# Altium footprint library Ti.PcbLib: 4 footprints
Each footprint in its own frame and in the unit in brackets; x right, y up, seen from the top. Pads: shape width x height; smd on the part's side, far side on the other; paste and mask are expansions set on the pad; w line width, h text height; cw(c..) or ccw(c..) is an arc to the next point about the centre after c.
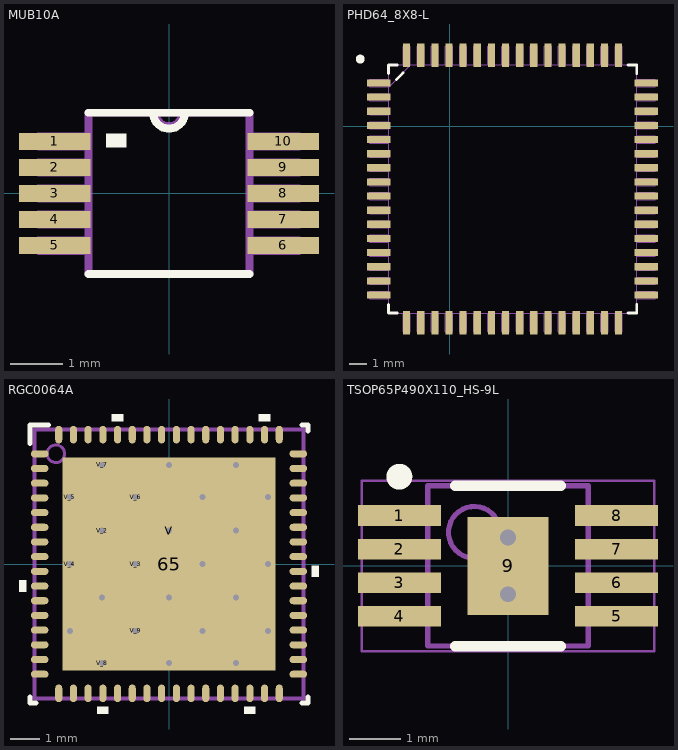
[diagram p0: the footprints below, top view; thin cyan lines are the x and y axes]

## MUB10A [mil]
height 43
pads (10):
  rect 54x13 smd: 1(-86.5,39.37) 2(-86.5,19.68) 3(-86.5,0) 4(-86.5,-19.68) 5(-86.5,-39.37) 6(86.5,-39.37) 7(86.5,-19.68) 8(86.5,0) 9(86.5,19.68) 10(86.5,39.37)
Top Overlay:
  region: -47.5,35 -47.5,45 -32.5,45 -32.5,35
  lines w6: -61,-61 61,-61 ; -61,61 61,61 ; -12,61 ccw(c0,61) 12,61
Mechanical 1:
  lines w6: -10.17,61 ccw(c0,61) 10.17,61 ; -61,-61 -61,61 61,61 61,-61 -61,-61
Mechanical 13:
  lines w0: -12,61 ccw(c0,61) 12,61 ; 61,13.19 99.5,13.19 99.5,26.18 61,26.18 ; 61,32.87 99.5,32.87 99.5,45.87 61,45.87 ; -99.5,-45.87 -99.5,-32.87 -61,-32.87 -61,-45.87 -99.5,-45.87 ; -99.5,-26.18 -99.5,-13.19 -61,-13.19 -61,-26.18 -99.5,-26.18 ; -99.5,-6.5 -99.5,6.5 -61,6.5 -61,-6.5 -99.5,-6.5 ; -99.5,13.19 -99.5,26.18 -61,26.18 -61,13.19 -99.5,13.19 ; -99.5,32.87 -99.5,45.87 -61,45.87 -61,32.87 -99.5,32.87 ; -61,-61 61,-61 61,61 -61,61 -61,-61 ; 61,-45.87 61,-32.87 99.5,-32.87 99.5,-45.87 61,-45.87 ; 61,-26.18 61,-13.19 99.5,-13.19 99.5,-26.18 61,-26.18 ; 61,-6.5 61,6.5 99.5,6.5 99.5,-6.5 61,-6.5

## PHD64_8X8-L [mil]
pads (64):
  rect 52x16 smd: 1(-158.5,96.72) 2(-158.5,65.22) 3(-158.5,33.73) 4(-158.5,2.23) 5(-158.5,-29.26) 6(-158.5,-60.76) 7(-158.5,-92.26) 8(-158.5,-123.75) 9(-158.5,-155.25) 10(-158.5,-186.74) 11(-158.5,-218.24) 12(-158.5,-249.74) 13(-158.5,-281.23) 14(-158.5,-312.73) 15(-158.5,-344.22) 16(-158.5,-375.72) 33(437.5,-375.72) 34(437.5,-344.22) 35(437.5,-312.73) 36(437.5,-281.23) 37(437.5,-249.74) 38(437.5,-218.24) 39(437.5,-186.74) 40(437.5,-155.25) 41(437.5,-123.75) 42(437.5,-92.26) 43(437.5,-60.76) 44(437.5,-29.26) 45(437.5,2.23) 46(437.5,33.73) 47(437.5,65.22) 48(437.5,96.72)
  rect 16x52 smd: 17(-96.72,-437.5) 18(-65.22,-437.5) 19(-33.73,-437.5) 20(-2.23,-437.5) 21(29.26,-437.5) 22(60.76,-437.5) 23(92.26,-437.5) 24(123.75,-437.5) 25(155.25,-437.5) 26(186.74,-437.5) 27(218.24,-437.5) 28(249.74,-437.5) 29(281.23,-437.5) 30(312.73,-437.5) 31(344.22,-437.5) 32(375.72,-437.5) 49(375.72,158.5) 50(344.22,158.5) 51(312.73,158.5) 52(281.23,158.5) 53(249.74,158.5) 54(218.24,158.5) 55(186.74,158.5) 56(155.25,158.5) 57(123.75,158.5) 58(92.26,158.5) 59(60.76,158.5) 60(29.26,158.5) 61(-2.23,158.5) 62(-33.73,158.5) 63(-65.22,158.5) 64(-96.72,158.5)
Top Overlay:
  circle w10: c-200,150 r5
  lines w6: -137,-396.82 -137,-416 -117.82,-416 ; -137,117.82 -137,137 -117.82,137 ; -119.4,104.6 -104.6,119.4 ; 396.82,-416 416,-416 416,-396.82 ; 396.82,137 416,137 416,117.82
Mechanical 1:
  drawing of 261 lines, arcs and shapes, not listed
3D body: height 47.24, standoff 5.91, extent -137,-416 416,137

## RGC0064A [mm]
pads (89):
  oval 0.6x0.24 smd paste-0.102 mask+0.051: 1(-4.4,3.75) 2(-4.4,3.25) 3(-4.4,2.75) 4(-4.4,2.25) 5(-4.4,1.75) 6(-4.4,1.25) 7(-4.4,0.75) 8(-4.4,0.25) 9(-4.4,-0.25) 10(-4.4,-0.75) 11(-4.4,-1.25) 12(-4.4,-1.75) 13(-4.4,-2.25) 14(-4.4,-2.75) 15(-4.4,-3.25) 16(-4.4,-3.75) 33(4.4,-3.75) 34(4.4,-3.25) 35(4.4,-2.75) 36(4.4,-2.25) 37(4.4,-1.75) 38(4.4,-1.25) 39(4.4,-0.75) 40(4.4,-0.25) 41(4.4,0.25) 42(4.4,0.75) 43(4.4,1.25) 44(4.4,1.75) 45(4.4,2.25) 46(4.4,2.75) 47(4.4,3.25) 48(4.4,3.75)
  oval 0.24x0.6 smd paste-0.102 mask+0.051: 17(-3.751,-4.4) 18(-3.251,-4.4) 19(-2.751,-4.4) 20(-2.251,-4.4) 21(-1.75,-4.4) 22(-1.25,-4.4) 23(-0.75,-4.4) 24(-0.25,-4.4) 25(0.25,-4.4) 26(0.75,-4.4) 27(1.25,-4.4) 28(1.75,-4.4) 29(2.251,-4.4) 30(2.751,-4.4) 31(3.251,-4.4) 32(3.751,-4.4) 49(3.751,4.4) 50(3.251,4.4) 51(2.751,4.4) 52(2.251,4.4) 53(1.75,4.4) 54(1.25,4.4) 55(0.75,4.4) 56(0.25,4.4) 57(-0.25,4.4) 58(-0.75,4.4) 59(-1.25,4.4) 60(-1.75,4.4) 61(-2.251,4.4) 62(-2.751,4.4) 63(-3.251,4.4) 64(-3.751,4.4)
  rect 7.25x7.25 smd paste-3.612 mask+0.051: 65(0,0)
  round 0.5 / inner round 1.524 / far side round 0.5 hole 0.203 mask+0.051: V(0,1.136) V_2(-2.272,1.136) V_3(-1.136,0) V_4(-3.375,0) V_5(-3.375,2.272) V_6(-1.136,2.272) V_7(-2.272,3.375) V_8(-2.272,-3.375) V_9(-1.136,-2.272) V_10(-3.375,-2.272) V_11(-2.272,-1.136) V_12(0,-1.136) V_13(2.272,-1.136) V_14(3.375,-2.272) V_15(1.136,-2.272) V_16(0,-3.375) V_17(2.272,-3.375) V_18(2.272,3.375) V_19(0,3.375) V_20(1.136,2.272) V_21(3.375,2.272) V_22(3.375,0) V_23(2.272,1.136) V_24(1.136,0)
Top Overlay:
  region: -1.56,5.103 -1.56,4.849 -1.941,4.849 -1.941,5.103
  region: 3.441,5.103 3.441,4.849 3.06,4.849 3.06,5.103
  region: 4.849,-0.44 4.849,-0.059 5.103,-0.059 5.103,-0.44
  region: 2.941,-5.103 2.941,-4.849 2.56,-4.849 2.56,-5.103
  region: -2.06,-5.103 -2.06,-4.849 -2.441,-4.849 -2.441,-5.103
  region: -4.849,-0.941 -4.849,-0.56 -5.103,-0.56 -5.103,-0.941
  lines w0.178: -4.725,-4.525 -4.725,-4.725 -4.525,-4.725 ; -4.725,4.096 -4.725,4.725 -4.097,4.725 ; 4.525,-4.725 4.725,-4.725 4.725,-4.525 ; 4.525,4.725 4.725,4.725 4.725,4.525
Top Paste:
  region: 0.1,1.036 0.1,0.1 1.036,0.1 1.036,1.036
  region: 1.236,1.036 1.236,0.1 2.172,0.1 2.172,1.036
  region: 2.372,1.036 2.372,0.1 3.308,0.1 3.308,1.036
  region: -2.372,0.1 -2.372,1.036 -3.308,1.036 -3.308,0.1
  region: -1.236,0.1 -1.236,1.036 -2.172,1.036 -2.172,0.1
  region: -0.1,0.1 -0.1,1.036 -1.036,1.036 -1.036,0.1
  region: -0.1,1.236 -0.1,2.172 -1.036,2.172 -1.036,1.236
  region: -1.236,1.236 -1.236,2.172 -2.172,2.172 -2.172,1.236
  region: -2.372,1.236 -2.372,2.172 -3.308,2.172 -3.308,1.236
  region: 2.372,2.172 2.372,1.236 3.308,1.236 3.308,2.172
  region: 1.236,2.172 1.236,1.236 2.172,1.236 2.172,2.172
  region: 0.1,2.172 0.1,1.236 1.036,1.236 1.036,2.172
  region: 0.1,3.308 0.1,2.372 1.036,2.372 1.036,3.308
  region: 1.236,3.308 1.236,2.372 2.172,2.372 2.172,3.308
  region: 2.372,3.308 2.372,2.372 3.308,2.372 3.308,3.308
  region: -2.372,2.372 -2.372,3.308 -3.308,3.308 -3.308,2.372
  region: -1.236,2.372 -1.236,3.308 -2.172,3.308 -2.172,2.372
  region: -0.1,2.372 -0.1,3.308 -1.036,3.308 -1.036,2.372
  region: -0.1,-3.308 -0.1,-2.372 -1.036,-2.372 -1.036,-3.308
  region: -1.236,-3.308 -1.236,-2.372 -2.172,-2.372 -2.172,-3.308
  region: -2.372,-3.308 -2.372,-2.372 -3.308,-2.372 -3.308,-3.308
  region: 2.372,-2.372 2.372,-3.308 3.308,-3.308 3.308,-2.372
  region: 1.236,-2.372 1.236,-3.308 2.172,-3.308 2.172,-2.372
  region: 0.1,-2.372 0.1,-3.308 1.036,-3.308 1.036,-2.372
  region: 0.1,-1.236 0.1,-2.172 1.036,-2.172 1.036,-1.236
  region: 1.236,-1.236 1.236,-2.172 2.172,-2.172 2.172,-1.236
  region: 2.372,-1.236 2.372,-2.172 3.308,-2.172 3.308,-1.236
  region: -2.372,-2.172 -2.372,-1.236 -3.308,-1.236 -3.308,-2.172
  region: -1.236,-2.172 -1.236,-1.236 -2.172,-1.236 -2.172,-2.172
  region: -0.1,-2.172 -0.1,-1.236 -1.036,-1.236 -1.036,-2.172
  region: -0.1,-1.036 -0.1,-0.1 -1.036,-0.1 -1.036,-1.036
  region: -1.236,-1.036 -1.236,-0.1 -2.172,-0.1 -2.172,-1.036
  region: -2.372,-1.036 -2.372,-0.1 -3.308,-0.1 -3.308,-1.036
  region: 2.372,-0.1 2.372,-1.036 3.308,-1.036 3.308,-0.1
  region: 1.236,-0.1 1.236,-1.036 2.172,-1.036 2.172,-0.1
  region: 0.1,-0.1 0.1,-1.036 1.036,-1.036 1.036,-0.1
Mechanical 1:
  circle w0.1: c-3.85,3.75 r0.3
  lines w0.127: -4.575,-4.575 -4.575,4.575 4.575,4.575 4.575,-4.575 -4.575,-4.575 ; -4.575,-3.9 -4.575,-3.6 -4.575,-3.9 ; -4.575,-3.4 -4.575,-3.1 -4.575,-3.4 ; -4.575,-2.9 -4.575,-2.6 -4.575,-2.9 ; -4.575,-2.4 -4.575,-2.1 -4.575,-2.4 ; -4.575,-1.9 -4.575,-1.6 -4.575,-1.9 ; -4.575,-1.4 -4.575,-1.1 -4.575,-1.4 ; -4.575,-0.9 -4.575,-0.6 -4.575,-0.9 ; -4.575,-0.4 -4.575,-0.1 -4.575,-0.4 ; -4.575,0.1 -4.575,0.4 -4.575,0.1 ; -4.575,0.6 -4.575,0.9 -4.575,0.6 ; -4.575,1.1 -4.575,1.4 -4.575,1.1 ; -4.575,1.6 -4.575,1.9 -4.575,1.6 ; -4.575,2.1 -4.575,2.4 -4.575,2.1 ; -4.575,2.6 -4.575,2.9 -4.575,2.6 ; -4.575,3.1 -4.575,3.4 -4.575,3.1 ; -4.575,3.6 -4.575,3.9 -4.575,3.6 ; -3.9,-4.575 -3.6,-4.575 -3.9,-4.575 ; -3.9,4.575 -3.6,4.575 -3.9,4.575 ; -3.4,-4.575 -3.1,-4.575 -3.4,-4.575 ; -3.4,4.575 -3.1,4.575 -3.4,4.575 ; -2.9,-4.575 -2.6,-4.575 -2.9,-4.575 ; -2.9,4.575 -2.6,4.575 -2.9,4.575 ; -2.4,-4.575 -2.1,-4.575 -2.4,-4.575 ; -2.4,4.575 -2.1,4.575 -2.4,4.575 ; -1.9,-4.575 -1.6,-4.575 -1.9,-4.575 ; -1.9,4.575 -1.6,4.575 -1.9,4.575 ; -1.4,-4.575 -1.1,-4.575 -1.4,-4.575 ; -1.4,4.575 -1.1,4.575 -1.4,4.575 ; -0.9,-4.575 -0.6,-4.575 -0.9,-4.575 ; -0.9,4.575 -0.6,4.575 -0.9,4.575 ; -0.4,-4.575 -0.1,-4.575 -0.4,-4.575 ; -0.4,4.575 -0.1,4.575 -0.4,4.575 ; 0.1,-4.575 0.4,-4.575 0.1,-4.575 ; 0.1,4.575 0.4,4.575 0.1,4.575 ; 0.6,-4.575 0.9,-4.575 0.6,-4.575 ; 0.6,4.575 0.9,4.575 0.6,4.575 ; 1.1,-4.575 1.4,-4.575 1.1,-4.575 ; 1.1,4.575 1.4,4.575 1.1,4.575 ; 1.6,-4.575 1.9,-4.575 1.6,-4.575 ; 1.6,4.575 1.9,4.575 1.6,4.575 ; 2.1,-4.575 2.4,-4.575 2.1,-4.575 ; 2.1,4.575 2.4,4.575 2.1,4.575 ; 2.6,-4.575 2.9,-4.575 2.6,-4.575 ; 2.6,4.575 2.9,4.575 2.6,4.575 ; 3.1,-4.575 3.4,-4.575 3.1,-4.575 ; 3.1,4.575 3.4,4.575 3.1,4.575 ; 3.6,-4.575 3.9,-4.575 3.6,-4.575 ; 3.6,4.575 3.9,4.575 3.6,4.575 ; 4.575,-3.9 4.575,-3.6 4.575,-3.9 ; 4.575,-3.4 4.575,-3.1 4.575,-3.4 ; 4.575,-2.9 4.575,-2.6 4.575,-2.9 ; 4.575,-2.4 4.575,-2.1 4.575,-2.4 ; 4.575,-1.9 4.575,-1.6 4.575,-1.9 ; 4.575,-1.4 4.575,-1.1 4.575,-1.4 ; 4.575,-0.9 4.575,-0.6 4.575,-0.9 ; 4.575,-0.4 4.575,-0.1 4.575,-0.4 ; 4.575,0.1 4.575,0.4 4.575,0.1 ; 4.575,0.6 4.575,0.9 4.575,0.6 ; 4.575,1.1 4.575,1.4 4.575,1.1 ; 4.575,1.6 4.575,1.9 4.575,1.6 ; 4.575,2.1 4.575,2.4 4.575,2.1 ; 4.575,2.6 4.575,2.9 4.575,2.6 ; 4.575,3.1 4.575,3.4 4.575,3.1 ; 4.575,3.6 4.575,3.9 4.575,3.6

## TSOP65P490X110_HS-9L [mm] "TSOP, 8-Leads, Body 3.00x3.00mm, Pitch 0.65mm, Thermal Pad 1.89.2x1.57.2mm, IPC High Density"
height 1.1
pads (9):
  rect 1.6x0.4 smd: 1(-2.1,0.975) 2(-2.1,0.325) 3(-2.1,-0.325) 4(-2.1,-0.975) 5(2.1,-0.975) 6(2.1,-0.325) 7(2.1,0.325) 8(2.1,0.975)
  rect 1.57x1.89 smd: 9(0,0)
via 0,0.55 diameter 0.5 hole 0.3
via 0,-0.55 diameter 0.5 hole 0.3
Top Overlay:
  circle w0.25: c-2.1,1.725 r0.125
  lines w0.2: -1.025,-1.55 1.025,-1.55 ; -1.025,1.55 1.025,1.55
Mechanical 13:
  circle w0.1: c-0.65,0.65 r0.5
  lines w0.1: -1.55,-1.55 -1.55,1.55 1.55,1.55 1.55,-1.55 -1.55,-1.55
Mechanical 15:
  lines w0.05: -2.825,-1.65 -2.825,1.65 2.825,1.65 2.825,-1.65 -2.825,-1.65
  lines w0.1: -0.5,0 0.5,0 ; 0,-0.5 0,0.5
3D body: height 1.1, standoff 0.05, extent -1.55,-1.55 1.55,1.55